# Altium schematic symbol library IXTT140P10T.Schlib: 1 symbol
Pins are listed as number, name and electrical type; pins without a type are passive.

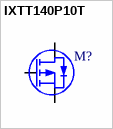
[diagram p0: symbol IXTT140P10T]

## IXTT140P10T
designator M?
20V 1.6A P-Channel
pins: 1 G, 2 S, 3 D